# Altium footprint library 芯片封装.PcbLib: 55 footprints (part 3 of 4)
Each footprint in its own frame and in the unit in brackets; x right, y up, seen from the top. Pads: shape width x height; smd on the part's side, far side on the other; paste and mask are expansions set on the pad; w line width, h text height; cw(c..) or ccw(c..) is an arc to the next point about the centre after c.
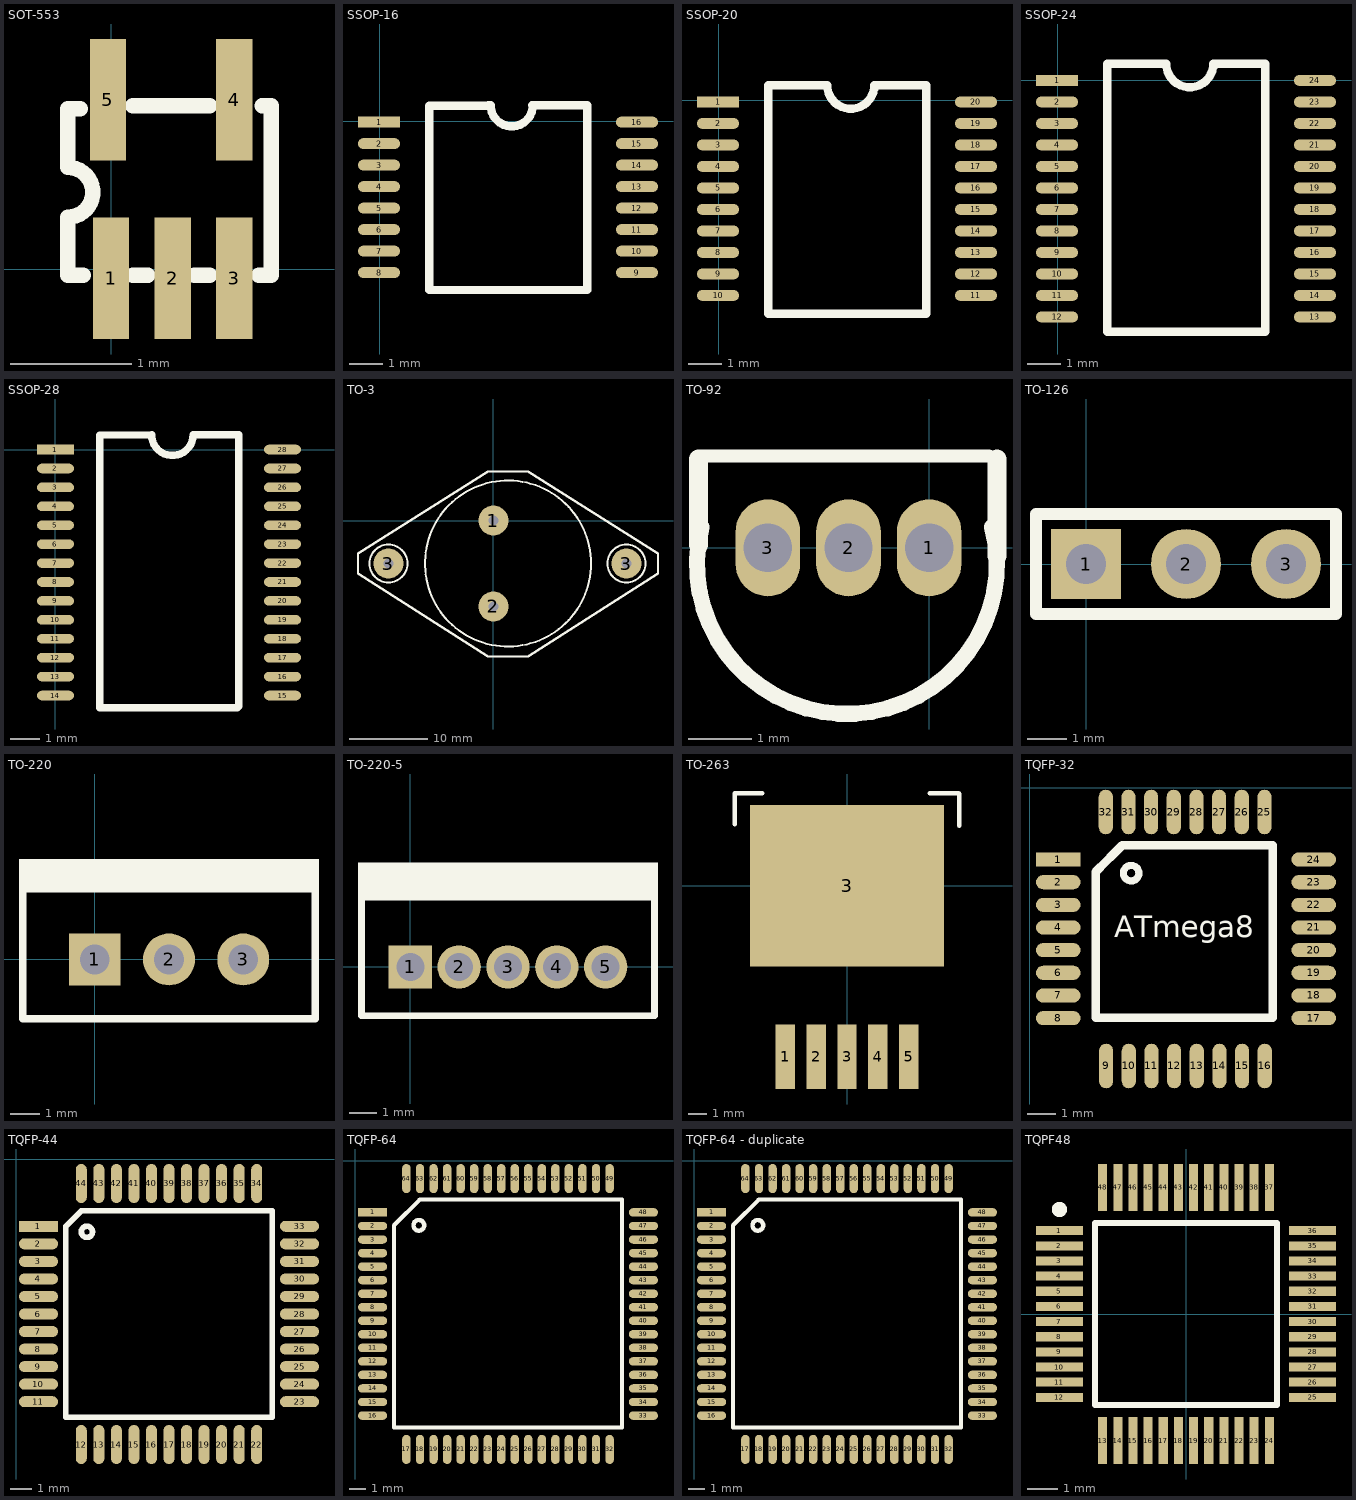
[diagram p2: the footprints below, top view; thin cyan lines are the x and y axes]

## SOT-553 [mm]
pads (5):
  rect 0.3x1 smd: 1(0,-0.076) 2(0.508,-0.076) 3(1.016,-0.076) 4(1.016,1.397) 5(-0.025,1.397)
Top Overlay:
  lines w0.127: -0.254,1.321 -0.356,1.321 -0.356,0.838 cw(c-0.356,0.633) -0.356,0.429 -0.356,-0.051 -0.229,-0.051 ; 0.178,-0.051 0.305,-0.051 ; 0.178,1.346 0.813,1.346 ; 0.686,-0.051 0.813,-0.051 ; 1.219,-0.051 1.321,-0.051 1.321,1.346 1.245,1.346

## SSOP-16 [mm]
pads (16):
  rect 1.27x0.33 smd: 1(-0.025,-0.025)
  oval 1.27x0.33 smd: 2(-0.025,-0.675) 3(-0.025,-1.325) 4(-0.025,-1.975) 5(-0.025,-2.625) 6(-0.025,-3.275) 7(-0.025,-3.925) 8(-0.025,-4.575) 9(7.775,-4.575) 10(7.775,-3.925) 11(7.775,-3.275) 12(7.775,-2.625) 13(7.775,-1.975) 14(7.775,-1.325) 15(7.775,-0.675) 16(7.775,-0.025)
Top Overlay:
  lines w0.254: 1.499,-5.1 1.499,0.475 3.269,0.475 3.277,0.483 ; 1.549,-5.1 6.274,-5.1 6.274,0.475 6.266,0.483 4.6,0.483 ; 3.353,0.483 ccw(c3.988,0.483) 4.623,0.483

## SSOP-20 [mm]
pads (20):
  rect 1.27x0.33 smd: 1(-0.025,-0.051)
  oval 1.27x0.33 smd: 2(-0.025,-0.701) 3(-0.025,-1.351) 4(-0.025,-2.001) 5(-0.025,-2.651) 6(-0.025,-3.301) 7(-0.025,-3.951) 8(-0.025,-4.601) 9(-0.025,-5.251) 10(-0.025,-5.901) 11(7.775,-5.901) 12(7.775,-5.251) 13(7.775,-4.601) 14(7.775,-3.951) 15(7.775,-3.301) 16(7.775,-2.651) 17(7.775,-2.001) 18(7.775,-1.351) 19(7.775,-0.701) 20(7.775,-0.051)
Top Overlay:
  lines w0.254: 6.223,-6.45 1.499,-6.45 1.499,0.449 3.269,0.449 3.277,0.457 ccw(c3.99,0.457) 4.703,0.457 6.266,0.457 6.274,0.449 6.274,-6.45

## SSOP-24 [mm]
pads (24):
  rect 1.27x0.33 smd: 1(-0.025,0)
  oval 1.27x0.33 smd: 2(-0.025,-0.65) 3(-0.025,-1.3) 4(-0.025,-1.95) 5(-0.025,-2.6) 6(-0.025,-3.25) 7(-0.025,-3.9) 8(-0.025,-4.55) 9(-0.025,-5.2) 10(-0.025,-5.85) 11(-0.025,-6.5) 12(-0.025,-7.15) 13(7.775,-7.15) 14(7.775,-6.5) 15(7.775,-5.85) 16(7.775,-5.2) 17(7.775,-4.55) 18(7.775,-3.9) 19(7.775,-3.25) 20(7.775,-2.6) 21(7.775,-1.95) 22(7.775,-1.3) 23(7.775,-0.65) 24(7.775,0)
Top Overlay:
  lines w0.254: 6.223,-7.6 1.499,-7.6 1.499,0.5 3.269,0.5 3.277,0.508 ccw(c3.99,0.508) 4.703,0.508 6.266,0.508 6.274,0.5 6.274,-7.6

## SSOP-28 [mm]
pads (28):
  rect 1.27x0.33 smd: 1(0,0)
  oval 1.27x0.33 smd: 2(0,-0.65) 3(0,-1.3) 4(0,-1.95) 5(0,-2.6) 6(0,-3.25) 7(0,-3.9) 8(0,-4.55) 9(0,-5.2) 10(0,-5.85) 11(0,-6.5) 12(0,-7.15) 13(0,-7.8) 14(0,-8.45) 15(7.8,-8.45) 16(7.8,-7.8) 17(7.8,-7.15) 18(7.8,-6.5) 19(7.8,-5.85) 20(7.8,-5.2) 21(7.8,-4.55) 22(7.8,-3.9) 23(7.8,-3.25) 24(7.8,-2.6) 25(7.8,-1.95) 26(7.8,-1.3) 27(7.8,-0.65) 28(7.8,0)
Top Overlay:
  lines w0.254: 1.524,-8.865 1.524,0.5 3.294,0.5 3.302,0.508 ccw(c4.015,0.508) 4.728,0.508 6.291,0.508 6.299,0.5 6.299,-8.814 6.248,-8.865 1.524,-8.865

## TO-3 [mil]
pads (4):
  round 150 hole 50: 1(0,0) 2(0,-430) 3(-525,-215) 3(665,-215)
Top Overlay:
  circle w10: c-525,-215 r95
  circle w10: c665,-215 r95
  circle w10: c73,-215 r415
  lines w12: -677,-265 -677,-165 -27,245 173,245 823,-165 823,-265 173,-680 -27,-680 -677,-265

## TO-92 [mil]
pads (3):
  oval 40x60 hole 30: 1(0,0) 2(-50,0) 3(-100,0)
Top Overlay:
  lines w8: -143,57 37,57
  lines w10: -141,13 ccw(c-51,-10) 39,13
  lines w12: -143,2 -143,55 ; 42,-5 42,55

## TO-126 [mil]
pads (3):
  rect 70x70 hole 40: 1(0,0)
  round 70 hole 40: 2(100,0) 3(200,0)
Top Overlay:
  lines w12: -50,-50 250,-50 250,50 -50,50 -50,-50

## TO-220 [mil]
pads (3):
  rect 70x70 hole 40: 1(0,0)
  round 70 hole 40: 2(100,0) 3(200,0)
Top Overlay:
  rectangle: -102,95 302,135
  lines w10: -97,-80 297,-80 297,95 -97,95 -97,-80

## TO-220-5 [mil]
pads (5):
  rect 62x62 hole 40: 1(0,0)
  round 62 hole 40: 2(70,0) 3(140,0) 4(210,0) 5(280,0)
Top Overlay:
  rectangle: -75,100 355,150
  lines w10: -70,-70 350,-70 350,100 -70,100 -70,-70

## TO-263 [mil]
pads (6):
  rect 42x140 smd: 1(-134,-370) 2(-67,-370) 3(0,-370) 4(67,-370) 5(134,-370)
  rect 420x350 smd: 3(0,0)
Top Overlay:
  lines w10: -243,134 -243,201 -184,201 ; 179,201 242,201 243,200 243,130

## TQFP-32 [mil]
pads (32):
  rect 62x19.68 smd: 1(40,-100)
  oval 62x19.68 smd: 2(40,-131.5) 3(40,-162.99) 4(40,-194.49) 5(40,-225.98) 6(40,-257.48) 7(40,-288.98) 8(40,-320.47) 17(395,-320.47) 18(395,-288.98) 19(395,-257.48) 20(395,-225.98) 21(395,-194.49) 22(395,-162.99) 23(395,-131.5) 24(395,-100)
  oval 19.68x62 smd: 9(106.51,-387) 10(138.01,-387) 11(169.5,-387) 12(201,-387) 13(232.5,-387) 14(263.99,-387) 15(295.49,-387) 16(326.98,-387) 25(326.52,-33.95) 26(295.02,-33.95) 27(263.53,-33.95) 28(232.03,-33.95) 29(200.53,-33.95) 30(169.04,-33.95) 31(137.54,-33.95) 32(106.05,-33.95)
Top Overlay:
  circle w10: c141.23,-119 r10.77
  lines w12: 93,-116 129,-80 338,-80 338,-320 92,-320 92,-117 98.99,-110.01
  text "ATmega8" at 118,-208 h30

## TQFP-44 [mil]
pads (44):
  rect 70x19.68 smd: 1(40,-120)
  oval 70x19.68 smd: 2(40,-151.5) 3(40,-182.99) 4(40,-214.49) 5(40,-245.98) 6(40,-277.48) 7(40,-308.98) 8(40,-340.47) 9(40,-371.97) 10(40,-403.46) 11(40,-434.96) 23(508.5,-434.96) 24(508.5,-403.46) 25(508.5,-371.97) 26(508.5,-340.47) 27(508.5,-308.98) 28(508.5,-277.48) 29(508.5,-245.98) 30(508.5,-214.49) 31(508.5,-182.99) 32(508.5,-151.5) 33(508.5,-120)
  oval 19.68x70 smd: 12(116.77,-511.73) 13(148.27,-511.73) 14(179.76,-511.73) 15(211.26,-511.73) 16(242.76,-511.73) 17(274.25,-511.73) 18(305.75,-511.73) 19(337.24,-511.73) 20(368.74,-511.73) 21(400.24,-511.73) 22(431.73,-511.73) 34(431.73,-43.23) 35(400.24,-43.23) 36(368.74,-43.23) 37(337.24,-43.23) 38(305.75,-43.23) 39(274.25,-43.23) 40(242.76,-43.23) 41(211.26,-43.23) 42(179.76,-43.23) 43(148.27,-43.23) 44(116.77,-43.23)
Top Overlay:
  circle w10: c126.95,-130 r10.05
  lines w9.84: 89.21,-462.52 459.29,-462.52 459.29,-92.44
  lines w10: 89.21,-462.52 89.21,-120 116.77,-92.44 459.29,-92.44

## TQFP-64 [mm]
pads (64):
  rect 1.724x0.5 smd: 1(1.016,-3.044)
  oval 1.724x0.5 smd: 2(1.016,-3.844) 3(1.016,-4.644) 4(1.016,-5.444) 5(1.016,-6.244) 6(1.016,-7.044) 7(1.016,-7.844) 8(1.016,-8.644) 9(1.016,-9.444) 10(1.016,-10.244) 11(1.016,-11.044) 12(1.016,-11.844) 13(1.016,-12.644) 14(1.016,-13.444) 15(1.016,-14.244) 16(1.016,-15.044) 33(17.016,-15.044) 34(17.016,-14.244) 35(17.016,-13.444) 36(17.016,-12.644) 37(17.016,-11.844) 38(17.016,-11.044) 39(17.016,-10.244) 40(17.016,-9.444) 41(17.016,-8.644) 42(17.016,-7.844) 43(17.016,-7.044) 44(17.016,-6.244) 45(17.016,-5.444) 46(17.016,-4.644) 47(17.016,-3.844) 48(17.016,-3.044)
  oval 0.5x1.724 smd: 17(3.016,-17.044) 18(3.816,-17.044) 19(4.616,-17.044) 20(5.416,-17.044) 21(6.216,-17.044) 22(7.016,-17.044) 23(7.816,-17.044) 24(8.616,-17.044) 25(9.416,-17.044) 26(10.216,-17.044) 27(11.016,-17.044) 28(11.816,-17.044) 29(12.616,-17.044) 30(13.416,-17.044) 31(14.216,-17.044) 32(15.016,-17.044) 49(15.016,-1.044) 50(14.216,-1.044) 51(13.416,-1.044) 52(12.616,-1.044) 53(11.816,-1.044) 54(11.016,-1.044) 55(10.216,-1.044) 56(9.416,-1.044) 57(8.616,-1.044) 58(7.816,-1.044) 59(7.016,-1.044) 60(6.216,-1.044) 61(5.416,-1.044) 62(4.616,-1.044) 63(3.816,-1.044) 64(3.016,-1.044)
Top Overlay:
  circle w0.254: c3.748,-3.806 r0.316
  lines w0.254: 2.286,-15.744 15.748,-15.744 15.748,-2.282 3.81,-2.282 2.286,-3.806 2.286,-15.744

## TQFP-64 - duplicate [mm]
pads (64):
  rect 1.724x0.5 smd: 1(1.016,-3.044)
  oval 1.724x0.5 smd: 2(1.016,-3.844) 3(1.016,-4.644) 4(1.016,-5.444) 5(1.016,-6.244) 6(1.016,-7.044) 7(1.016,-7.844) 8(1.016,-8.644) 9(1.016,-9.444) 10(1.016,-10.244) 11(1.016,-11.044) 12(1.016,-11.844) 13(1.016,-12.644) 14(1.016,-13.444) 15(1.016,-14.244) 16(1.016,-15.044) 33(17.016,-15.044) 34(17.016,-14.244) 35(17.016,-13.444) 36(17.016,-12.644) 37(17.016,-11.844) 38(17.016,-11.044) 39(17.016,-10.244) 40(17.016,-9.444) 41(17.016,-8.644) 42(17.016,-7.844) 43(17.016,-7.044) 44(17.016,-6.244) 45(17.016,-5.444) 46(17.016,-4.644) 47(17.016,-3.844) 48(17.016,-3.044)
  oval 0.5x1.724 smd: 17(3.016,-17.044) 18(3.816,-17.044) 19(4.616,-17.044) 20(5.416,-17.044) 21(6.216,-17.044) 22(7.016,-17.044) 23(7.816,-17.044) 24(8.616,-17.044) 25(9.416,-17.044) 26(10.216,-17.044) 27(11.016,-17.044) 28(11.816,-17.044) 29(12.616,-17.044) 30(13.416,-17.044) 31(14.216,-17.044) 32(15.016,-17.044) 49(15.016,-1.044) 50(14.216,-1.044) 51(13.416,-1.044) 52(12.616,-1.044) 53(11.816,-1.044) 54(11.016,-1.044) 55(10.216,-1.044) 56(9.416,-1.044) 57(8.616,-1.044) 58(7.816,-1.044) 59(7.016,-1.044) 60(6.216,-1.044) 61(5.416,-1.044) 62(4.616,-1.044) 63(3.816,-1.044) 64(3.016,-1.044)
Top Overlay:
  circle w0.254: c3.748,-3.806 r0.316
  lines w0.254: 2.286,-15.744 2.286,-3.806 3.81,-2.282 15.748,-2.282 15.748,-15.744 2.286,-15.744

## TQPF48 [mm] "F-QFP7x7-G48/N"
pads (48):
  rect 1.55x0.3 smd: 1(-4.177,2.756) 2(-4.177,2.256) 3(-4.177,1.756) 4(-4.177,1.256) 5(-4.177,0.756) 6(-4.177,0.256) 7(-4.177,-0.244) 8(-4.177,-0.744) 9(-4.177,-1.244) 10(-4.177,-1.744) 11(-4.177,-2.244) 12(-4.177,-2.744) 25(4.173,-2.744) 26(4.173,-2.244) 27(4.173,-1.744) 28(4.173,-1.244) 29(4.173,-0.744) 30(4.173,-0.244) 31(4.173,0.256) 32(4.173,0.756) 33(4.173,1.256) 34(4.173,1.756) 35(4.173,2.256) 36(4.173,2.756)
  rect 0.3x1.55 smd: 13(-2.752,-4.169) 14(-2.252,-4.169) 15(-1.752,-4.169) 16(-1.252,-4.169) 17(-0.752,-4.169) 18(-0.252,-4.169) 19(0.248,-4.169) 20(0.748,-4.169) 21(1.248,-4.169) 22(1.748,-4.169) 23(2.248,-4.169) 24(2.748,-4.169) 37(2.748,4.181) 38(2.248,4.181) 39(1.748,4.181) 40(1.248,4.181) 41(0.748,4.181) 42(0.248,4.181) 43(-0.252,4.181) 44(-0.752,4.181) 45(-1.252,4.181) 46(-1.752,4.181) 47(-2.252,4.181) 48(-2.752,4.181)
Top Overlay:
  circle w0.25: c-4.177,3.456 r0.125
  lines w0.2: -3.002,-2.994 2.998,-2.994 2.998,3.006 -3.002,3.006 -3.002,-2.994